# EAGLE library part 1771088 (library 1771088)
PCB terminal block, nominal current: 6 A, rated voltage (III/2): 160 V, nominal cross section: 0.5 mm?, Number of potentials: 8, Number of rows: 1, Number of positions per row: 8, product range: PTSM 0,5/..-H-SMD, pitch: 2.5 mm, connection method: Push-in spring connection, mounting: SMD soldering, conductor/PCB connection direction: 0 ?, color: black, Pin layout: Linear pad geometry, type of packaging: packed in cardboard Source: Datasheet <http://www.phoenixcontact.net/product/1771088>
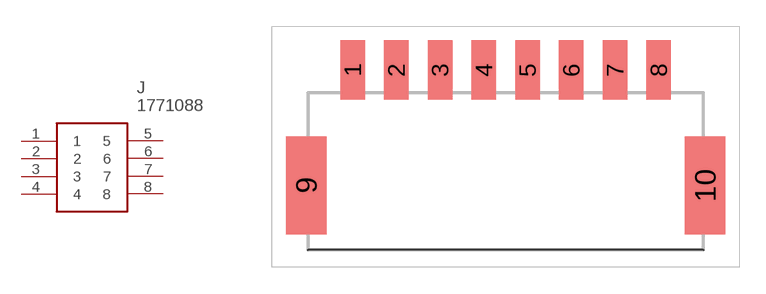
[diagram p0: symbol with the pads of 1771088; footprint 1771088]

Designator prefix J

## 1771088 (Description: PCB terminal block, nominal current: 6 A, rated voltage (III/2): 160 V, nominal cross section: 0.5 mm?, Number of potentials: 8, Number of rows: 1, Number of positions per row: 8, product range: PTSM 0,5/..-H-SMD, pitch: 2.5 mm, connection method: Push-in spring connection, mounting: SMD soldering, conductor/PCB connection direction: 0 ?, color: black, Pin layout: Linear pad geometry, type of packaging: packed in cardboard; Height: 5.22mm; Manufacturer_Name: Phoenix Contact; Manufacturer_Part_Number: 1771088; Mouser_Part_Number: 651-1771088; Mouser_Price-Stock: https://www.mouser.co.uk/ProductDetail/Phoenix-Contact/1771088?qs=Q77YN%2FRrsKIDMojcNKtpFQ%3D%3D)  [1771088]
1  1
2  2
3  3
4  4
5  5
6  6
7  7
8  8

## Footprint 1771088 (pad centres in mm)
1771088
smd 1.4 x 3.4: 1 -8.75,0; 2 -6.25,0; 3 -3.75,0; 4 -1.25,0; 5 1.25,0; 6 3.75,0; 7 6.25,0; 8 8.75,0
smd 2.3 x 5.6: 9 -11.4,-6.6; 10 11.4,-6.6